# Altium footprint library LDL1117S33R.PcbLib: 3 footprints
Each footprint in its own frame and in the unit in brackets; x right, y up, seen from the top. Pads: shape width x height; smd on the part's side, far side on the other; paste and mask are expansions set on the pad; w line width, h text height; cw(c..) or ccw(c..) is an arc to the next point about the centre after c.
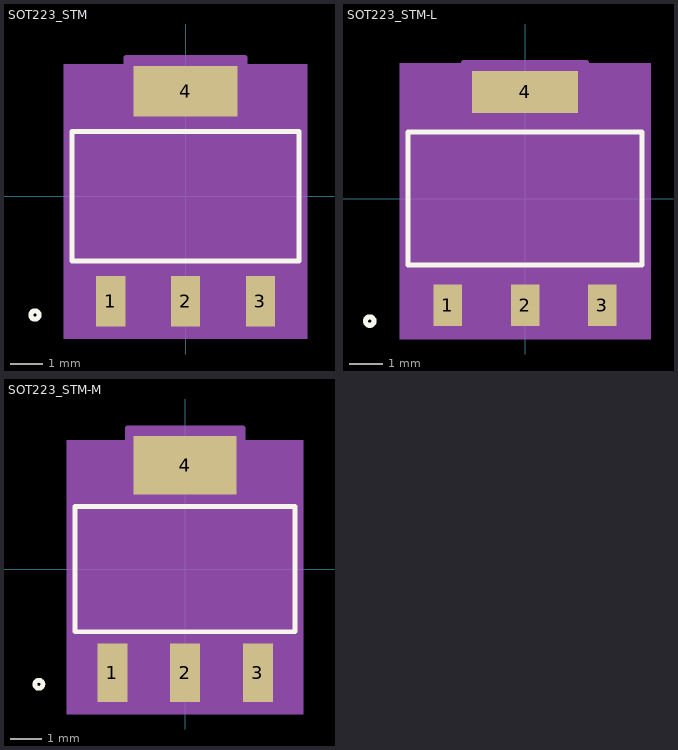
[diagram p0: the footprints below, top view; thin cyan lines are the x and y axes]

## SOT223_STM [mil]
pads (4):
  rect 35.46x61 smd paste+0 mask+0: 1(-90.55,-127) 2(0,-127) 3(90.55,-127)
  rect 126x61 smd paste+0 mask+0: 4(0,127)
Top Overlay:
  circle w6: c-182,-143.5 r5
  lines w6: -137,-78 137,-78 137,78 -137,78 -137,-78
Mechanical 5:
  region: -147,159.5 147,159.5 147,-172.5 -147,-172.5
Mechanical 13:
  circle w0: c-122,-63 r5
  lines w1: -132,-73 132,-73 132,73 -132,73 -132,-73 ; -107.28,-143.5 -107.28,-73 -73.82,-73 -73.82,-143.5 -107.28,-143.5 ; -62,73 62,73 62,143.5 -62,143.5 -62,73 ; -16.73,-143.5 -16.73,-73 16.73,-73 16.73,-143.5 -16.73,-143.5 ; 73.82,-143.5 73.82,-73 107.28,-73 107.28,-143.5 73.82,-143.5
Mechanical 15:
  region: -142,-83 -142,83 -72,83 -72,167.5 72,167.5 72,83 142,83 142,-83 117.28,-83 117.28,-167.5 -117.28,-167.5 -117.28,-83
  lines w6: -142,-83 -142,83 -72,83 -72,167.5 72,167.5 72,83 142,83 142,-83 117.28,-83 117.28,-167.5 -117.28,-167.5 -117.28,-83 -142,-83
3D body "SOT223_STM.step": height 71.1, standoff 0, extent -132.01,-143.5 132.01,143.5

## SOT223_STM-L [mil]
pads (4):
  rect 33.46x49 smd paste+0 mask+0: 1(-90.55,-125) 2(0,-125) 3(90.55,-125)
  rect 124x49 smd paste+0 mask+0: 4(0,125)
Top Overlay:
  circle w6: c-182,-143.5 r5
  lines w6: -137,-78 137,-78 137,78 -137,78 -137,-78
Mechanical 5:
  region: -147,158.5 147,158.5 147,-164.5 -147,-164.5
Mechanical 13:
  circle w0: c-122,-63 r5
  lines w1: -132,-73 132,-73 132,73 -132,73 -132,-73 ; -107.28,-143.5 -107.28,-73 -73.82,-73 -73.82,-143.5 -107.28,-143.5 ; -62,73 62,73 62,143.5 -62,143.5 -62,73 ; -16.73,-143.5 -16.73,-73 16.73,-73 16.73,-143.5 -16.73,-143.5 ; 73.82,-143.5 73.82,-73 107.28,-73 107.28,-143.5 73.82,-143.5
Mechanical 15:
  region: -142,-83 -142,83 -72,83 -72,159.5 72,159.5 72,83 142,83 142,-83 117.28,-83 117.28,-159.5 -117.28,-159.5 -117.28,-83
  lines w6: -142,-83 -142,83 -72,83 -72,159.5 72,159.5 72,83 142,83 142,-83 117.28,-83 117.28,-159.5 -117.28,-159.5 -117.28,-83 -142,-83
3D body "SOT223_STM.step": height 71.1, standoff 0, extent -132.01,-143.5 132.01,143.5

## SOT223_STM-M [mil]
pads (4):
  rect 37.46x73 smd paste+0 mask+0: 1(-90.55,-129) 2(0,-129) 3(90.55,-129)
  rect 128x73 smd paste+0 mask+0: 4(0,129)
Top Overlay:
  circle w6: c-182,-143.5 r5
  lines w6: -137,-78 137,-78 137,78 -137,78 -137,-78
Mechanical 5:
  region: -147,160.5 147,160.5 147,-180.5 -147,-180.5
Mechanical 13:
  circle w0: c-122,-63 r5
  lines w1: -132,-73 132,-73 132,73 -132,73 -132,-73 ; -107.28,-143.5 -107.28,-73 -73.82,-73 -73.82,-143.5 -107.28,-143.5 ; -62,73 62,73 62,143.5 -62,143.5 -62,73 ; -16.73,-143.5 -16.73,-73 16.73,-73 16.73,-143.5 -16.73,-143.5 ; 73.82,-143.5 73.82,-73 107.28,-73 107.28,-143.5 73.82,-143.5
Mechanical 15:
  region: -142,-83 -142,83 -72,83 -72,175.5 72,175.5 72,83 142,83 142,-83 117.28,-83 117.28,-175.5 -117.28,-175.5 -117.28,-83
  lines w6: -142,-83 -142,83 -72,83 -72,175.5 72,175.5 72,83 142,83 142,-83 117.28,-83 117.28,-175.5 -117.28,-175.5 -117.28,-83 -142,-83
3D body "SOT223_STM.step": height 71.1, standoff 0, extent -132.01,-143.5 132.01,143.5